# EAGLE library part 6490XX21022_64901021022 (library Wurth_Connectors_WR-MPC4)
WR-MPC4 4.20 mm Male Dual Row Angled Header w. Mounting Flanges for Screw-in Retention KIND PROPERTIES: Pitch:4.2 mm Gender:Male MATERIAL PROPERTIES: Insulator Material :PA66 Insulator Flammability Rating:UL94 V-0 Insulator Color:White Contact Material:Copper Alloy Contact Plating:Tin Contact Type:Stamped GENERAL INFORMATION Operating Temperature:-40 up to +105 °C Working Voltage:600V (AC) Withstanding Voltage:1500 V (AC) Contact Resistance:10 mΩ RISO:1000 MΩ PACKAGING PROPERTIES Packaging:Tray <https://katalog.we-online.com/media/images/v2/o33189v209%20Family_WR-MPC4_6490xx21022.jpg> Details see: https://katalog.we-online.com/en/em/MPC4_4_20_MALE_DUAL_ROW_ANGLED_HEADER_W_MOUNTING_FLANGES_6490XX21022 Updated by Yingchun,Shan 2019-11-12 2019 (C) Würth Elektronik
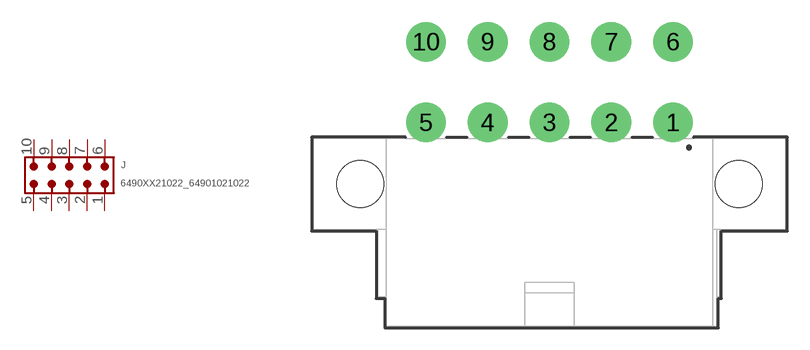
[diagram p44: symbol with the pads of 64901021022; footprint 64901021022]

Designator prefix J

## 6490XX21022_64901021022 (CONTACT-RESISTANCE: 10mOhm; DATASHEET-URL: https://www.we-online.com/catalog/datasheet/64901021022.pdf; GENDER: Male; L: 32.2mm; MATE-WITH: WR-MPC4 4.20 mm Female Dual Row Plug; MOUNT: THT; PACKAGING: Tray; PART-NUMBER: 64901021022; PCB-CABLE-PANEL: PCB; PINS: 10; PITCH: 4.2mm; ROWS: Dual; TOL-R: max.; TYPE: Right Angled; WORKING-VOLTAGE: 600V(AC))  [64901021022]
1  1  pas
2  2  pas
3  3  pas
4  4  pas
5  5  pas
6  6  pas
7  7  pas
8  8  pas
9  9  pas
10  10  pas

## Footprint 64901021022 (pad centres in mm)
WR-MPC4 4.20 mm Male Dual Row Angled Header w. Mounting Flanges for Screw-in Retention,10 pins
drill 1.8: 1 8.4,7.5; 2 4.2,7.5; 3 0,7.5; 4 -4.2,7.5; 5 -8.4,7.5; 6 8.4,13; 7 4.2,13; 8 0,13; 9 -4.2,13; 10 -8.4,13
hole 3.2 at -12.9,3.3
hole 3.2 at 12.9,3.3